# Altium footprint library BASIC Library.PCBLIB: 464 footprints (part 17 of 30)
Each footprint in its own frame and in the unit in brackets; x right, y up, seen from the top. Pads: shape width x height; smd on the part's side, far side on the other; paste and mask are expansions set on the pad; w line width, h text height; cw(c..) or ccw(c..) is an arc to the next point about the centre after c.
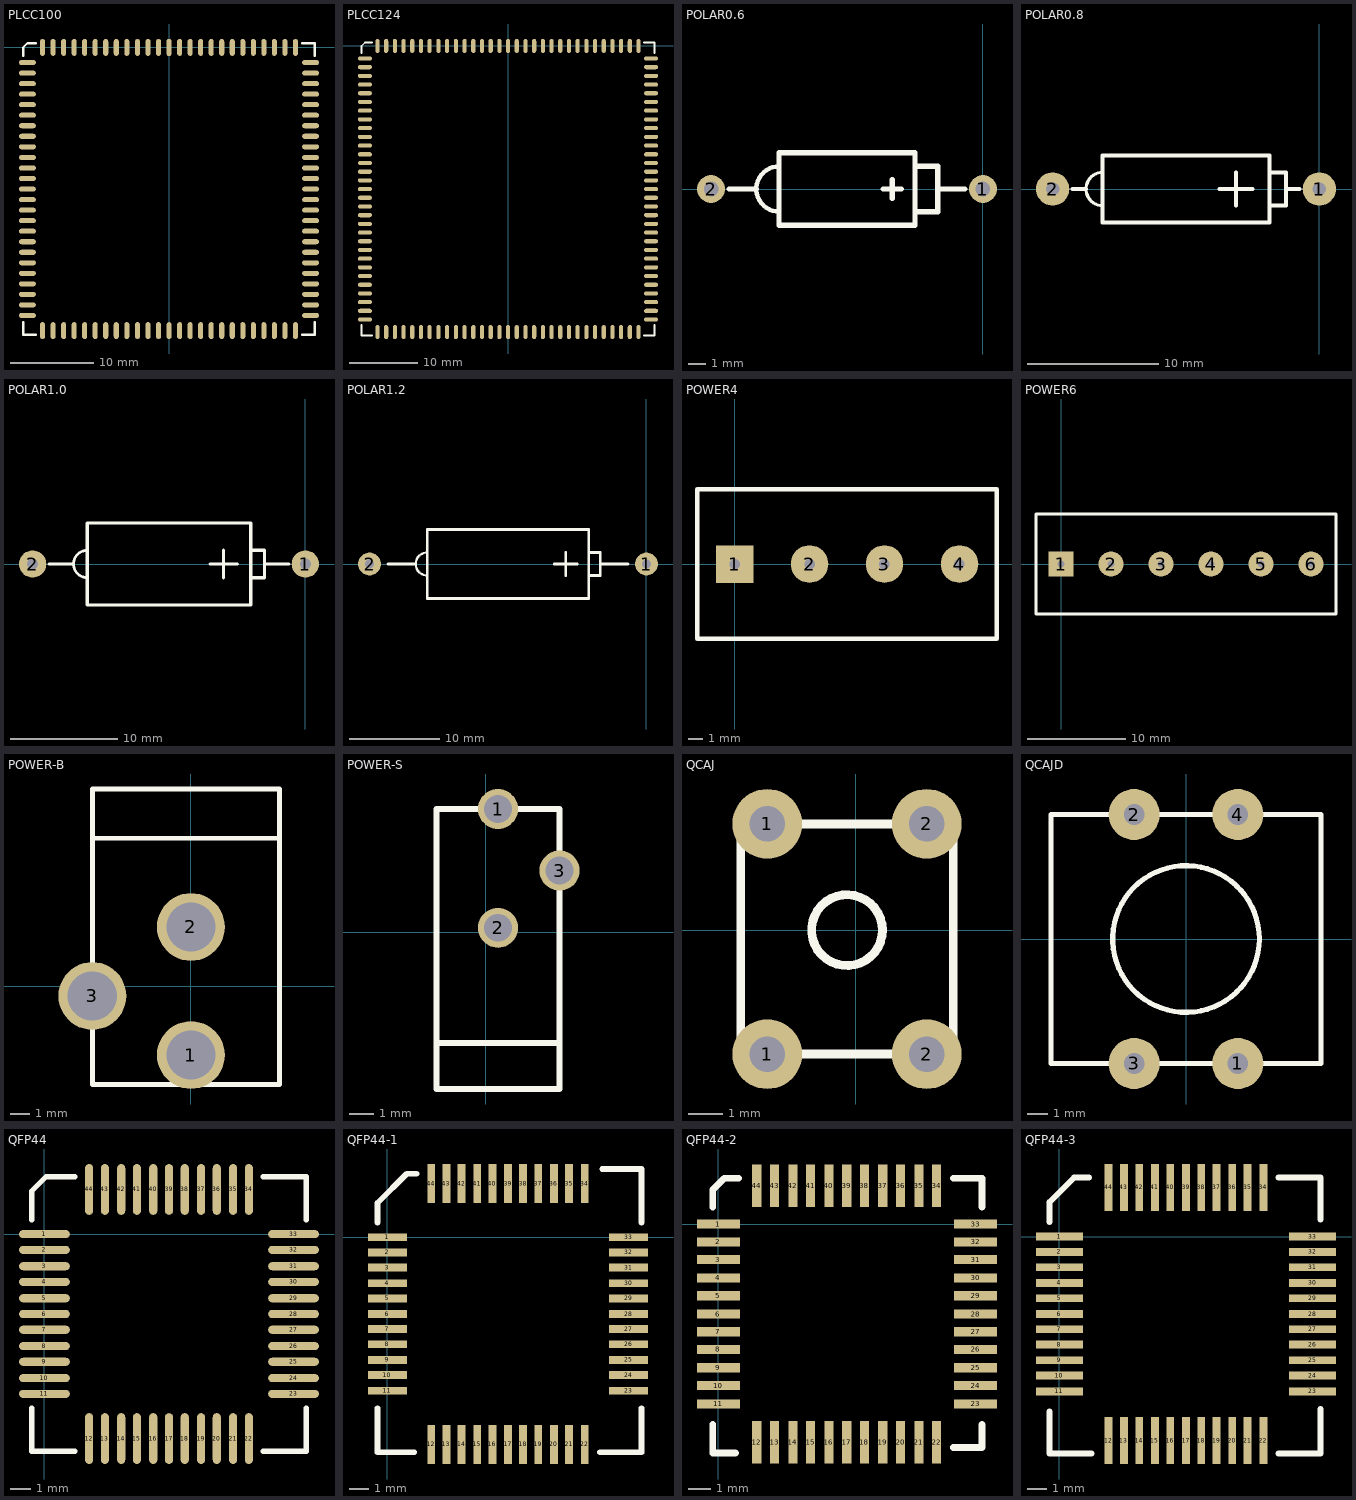
[diagram p16: the footprints below, top view; thin cyan lines are the x and y axes]

## PLCC100 [mil]
pads (100):
  oct 24x80 smd: 1(0,0)
  oval 24x80 smd: 2(-50,0) 3(-100,0) 4(-150,0) 5(-201,0) 6(-251,0) 7(-301,0) 8(-351,0) 9(-401,0) 10(-451,0) 11(-501,0) 12(-551,0) 13(-601,0) 39(-601,-1345) 40(-551,-1345) 41(-501,-1345) 42(-451,-1345) 43(-401,-1345) 44(-351,-1345) 45(-301,-1345) 46(-251,-1345) 47(-201,-1345) 48(-150,-1345) 49(-100,-1345) 50(-50,-1345) 51(0,-1345) 52(50,-1345) 53(100,-1345) 54(150,-1345) 55(200,-1345) 56(250,-1345) 57(300,-1345) 58(350,-1345) 59(400,-1345) 60(450,-1345) 61(500,-1345) 62(550,-1345) 63(600,-1345) 89(600,0) 90(550,0) 91(500,0) 92(450,0) 93(400,0) 94(350,0) 95(300,0) 96(250,0) 97(200,0) 98(150,0) 99(100,0) 100(50,0)
  oval 80x24 smd: 14(-673,-72) 15(-673,-122) 16(-673,-172) 17(-673,-222) 18(-673,-272) 19(-673,-322) 20(-673,-372) 21(-673,-422) 22(-673,-472) 23(-673,-523) 24(-673,-573) 25(-673,-623) 26(-673,-673) 27(-673,-723) 28(-673,-773) 29(-673,-823) 30(-673,-873) 31(-673,-923) 32(-673,-973) 33(-673,-1023) 34(-673,-1073) 35(-673,-1123) 36(-673,-1173) 37(-673,-1223) 38(-673,-1273) 64(672,-1273) 65(672,-1223) 66(672,-1173) 67(672,-1123) 68(672,-1073) 69(672,-1023) 70(672,-973) 71(672,-923) 72(672,-873) 73(672,-823) 74(672,-773) 75(672,-723) 76(672,-673) 77(672,-623) 78(672,-573) 79(672,-523) 80(672,-472) 81(672,-422) 82(672,-372) 83(672,-322) 84(672,-272) 85(672,-222) 86(672,-172) 87(672,-122) 88(672,-72)
TopOverlay:
  lines w10: -693,-1305 -693,-1365 -633,-1365 ; -693,-40 -693,0 -673,20 -633,20 ; 632,-1365 692,-1365 692,-1305 ; 632,20 692,20 692,-40

## PLCC124 [mil]
pads (124):
  oct 24x80 smd: 1(0,0)
  oval 24x80 smd: 2(-50,0) 3(-100,0) 4(-150,0) 5(-200,0) 6(-250,0) 7(-300,0) 8(-351,0) 9(-401,0) 10(-451,0) 11(-501,0) 12(-551,0) 13(-601,0) 14(-651,0) 15(-701,0) 16(-751,0) 48(-751,-1645) 49(-701,-1645) 50(-651,-1645) 51(-601,-1645) 52(-551,-1645) 53(-501,-1645) 54(-451,-1645) 55(-401,-1645) 56(-351,-1645) 57(-300,-1645) 58(-250,-1645) 59(-200,-1645) 60(-150,-1645) 61(-100,-1645) 62(-50,-1645) 63(0,-1645) 64(50,-1645) 65(100,-1645) 66(150,-1645) 67(200,-1645) 68(250,-1645) 69(300,-1645) 70(350,-1645) 71(400,-1645) 72(450,-1645) 73(500,-1645) 74(550,-1645) 75(600,-1645) 76(650,-1645) 77(700,-1645) 78(750,-1645) 110(750,0) 111(700,0) 112(650,0) 113(600,0) 114(550,0) 115(500,0) 116(450,0) 117(400,0) 118(350,0) 119(300,0) 120(250,0) 121(200,0) 122(150,0) 123(100,0) 124(50,0)
  oval 80x24 smd: 17(-823,-72) 18(-823,-122) 19(-823,-172) 20(-823,-222) 21(-823,-272) 22(-823,-322) 23(-823,-372) 24(-823,-422) 25(-823,-472) 26(-823,-523) 27(-823,-573) 28(-823,-623) 29(-823,-673) 30(-823,-723) 31(-823,-773) 32(-823,-823) 33(-823,-873) 34(-823,-923) 35(-823,-973) 36(-823,-1023) 37(-823,-1073) 38(-823,-1123) 39(-823,-1173) 40(-823,-1223) 41(-823,-1273) 42(-823,-1323) 43(-823,-1373) 44(-823,-1423) 45(-823,-1473) 46(-823,-1523) 47(-823,-1573) 79(822,-1573) 80(822,-1523) 81(822,-1473) 82(822,-1423) 83(822,-1373) 84(822,-1323) 85(822,-1273) 86(822,-1223) 87(822,-1173) 88(822,-1123) 89(822,-1073) 90(822,-1023) 91(822,-973) 92(822,-923) 93(822,-873) 94(822,-823) 95(822,-773) 96(822,-723) 97(822,-673) 98(822,-623) 99(822,-573) 100(822,-523) 101(822,-472) 102(822,-422) 103(822,-372) 104(822,-322) 105(822,-272) 106(822,-222) 107(822,-172) 108(822,-122) 109(822,-72)
TopOverlay:
  lines w10: -843,-1605 -843,-1665 -783,-1665 ; -843,-40 -843,0 -823,20 -783,20 ; 782,-1665 842,-1665 842,-1605 ; 782,20 842,20 842,-40

## POLAR0.6 [mil]
pads (2):
  round 62 hole 32: 1(0,0) 2(-600,0)
TopOverlay:
  lines w10: -450,-50 cw(c-450,0) -450,50
  lines w12: -560,0 -500,0 ; -220,0 -180,0 ; -200,-20 -200,20 ; -150,-50 -100,-50 -100,50 -150,50 ; -100,0 -40,0 ; -450,-80 -150,-80 -150,80 -450,80 -450,-80

## POLAR0.8 [mil]
pads (2):
  round 100 hole 40: 1(0,0) 2(-800,0)
TopOverlay:
  lines w10: -650,-50 cw(c-650,0) -650,50
  lines w12: -740,0 -700,0 ; -300,0 -200,0 ; -250,-50 -250,50 ; -150,-50 -100,-50 -100,50 -150,50 ; -100,0 -60,0 ; -650,-100 -150,-100 -150,100 -650,100 -650,-100

## POLAR1.0 [mil]
pads (2):
  round 100 hole 40: 1(0,0) 2(-1000,0)
TopOverlay:
  lines w10: -800,-50 cw(c-800,0) -800,50
  lines w12: -940,0 -850,0 ; -350,0 -250,0 ; -300,-50 -300,50 ; -200,-50 -150,-50 -150,50 -200,50 ; -150,0 -60,0 ; -800,-150 -800,150 -200,150 -200,-150 -800,-150

## POLAR1.2 [mil]
pads (2):
  round 100 hole 40: 1(0,0) 2(-1200,0)
TopOverlay:
  lines w10: -950,-50 cw(c-950,0) -950,50
  lines w12: -1120,0 -1000,0 ; -400,0 -300,0 ; -350,-50 -350,50 ; -250,-50 -200,-50 -200,50 -250,50 ; -200,0 -80,0 ; -950,-150 -250,-150 -250,150 -950,150 -950,-150

## POWER4 [mil]
pads (4):
  rect 100x100 hole 28: 1(0,0)
  round 100 hole 28: 2(200,0) 3(400,0) 4(600,0)
TopOverlay:
  lines w12: -100,-200 700,-200 700,200 -100,200 -100,-200

## POWER6 [mil]
pads (6):
  rect 100x100 hole 28: 1(0,0)
  round 100 hole 28: 2(200,0) 3(400,0) 4(600,0) 5(800,0) 6(1000,0)
TopOverlay:
  lines w12: -100,-200 -100,200 1100,200 1100,-200 -100,-200

## POWER-B [mm]
pads (3):
  round 3.5 hole 2.54: 1(0,-3.556) 2(0,3.048) 3(-5.08,-0.508)
TopOverlay:
  lines w0.254: -5.08,7.62 4.572,7.62 ; -5.08,-5.08 4.572,-5.08 4.572,10.16 -5.08,10.16 -5.08,-5.08

## POWER-S [mil]
pads (3):
  round 65 hole 45: 1(20,200) 2(20,7) 3(120,100)
TopOverlay:
  lines w10: -80,-180 120,-180 ; -80,-255 -80,200 120,200 120,-255 -80,-255

## QCAJ [mil]
pads (4):
  round 78.74 hole 40: 1(-100,-140) 1(-100,120) 2(80,-140) 2(80,120)
TopOverlay:
  circle w10: c-10,0 r40
  lines w10: -130,-140 -130,120 110,120 110,-140 -130,-140

## QCAJD [mil]
pads (4):
  round 98.42 hole 40: 1(100,-240) 2(-100,240) 3(-100,-240) 4(100,240)
TopOverlay:
  circle w10: c0,0 r141.42
  lines w10: -260,-240 -260,240 260,240 260,-240 -260,-240

## QFP44 [mil]
pads (44):
  oval 100x16 smd: 1(0,0) 2(0,-31) 3(0,-63) 4(0,-94) 5(0,-126) 6(0,-157) 7(0,-188) 8(0,-220) 9(0,-251) 10(0,-283) 11(0,-314) 23(490,-314) 24(490,-283) 25(490,-251) 26(490,-220) 27(490,-188) 28(490,-157) 29(490,-126) 30(490,-94) 31(490,-63) 32(490,-31) 33(490,0)
  oval 16x100 smd: 12(88,-402) 13(119,-402) 14(151,-402) 15(182,-402) 16(214,-402) 17(245,-402) 18(276,-402) 19(308,-402) 20(339,-402) 21(371,-402) 22(402,-402) 34(402,88) 35(371,88) 36(339,88) 37(308,88) 38(276,88) 39(245,88) 40(214,88) 41(182,88) 42(151,88) 43(119,88) 44(88,88)
TopOverlay:
  lines w10: -25,-342 -25,-427 60,-427 ; -25,28 -25,85 3,113 60,113 ; 430,-427 515,-427 515,-342 ; 430,113 515,113 515,28

## QFP44-1 [mil]
pads (44):
  rect 80x16 smd: 1(0,0) 2(0,-31) 3(0,-62) 4(0,-94) 5(0,-125) 6(0,-157) 7(0,-188) 8(0,-219) 9(0,-251) 10(0,-282) 11(0,-314) 23(494,-314) 24(494,-282) 25(494,-251) 26(494,-219) 27(494,-188) 28(494,-157) 29(494,-125) 30(494,-94) 31(494,-62) 32(494,-31) 33(494,0)
  rect 16x80 smd: 12(90,-424) 13(121,-424) 14(152,-424) 15(184,-424) 16(215,-424) 17(247,-424) 18(278,-424) 19(309,-424) 20(341,-424) 21(372,-424) 22(404,-424) 34(404,110) 35(372,110) 36(341,110) 37(309,110) 38(278,110) 39(247,110) 40(215,110) 41(184,110) 42(152,110) 43(121,110) 44(90,110)
TopOverlay:
  lines w12: -20,-350 -20,-440 55,-440 ; -20,30 -20,70 40,130 60,130 ; 435,-440 520,-440 520,-350 ; 440,140 520,140 520,30

## QFP44-2 [mil]
pads (44):
  rect 75x16 smd: 1(0,0) 2(0,-31) 3(0,-62) 4(0,-94) 5(0,-125) 6(0,-157) 7(0,-188) 8(0,-219) 9(0,-251) 10(0,-282) 11(0,-314) 23(449,-314) 24(449,-282) 25(449,-251) 26(449,-219) 27(449,-188) 28(449,-157) 29(449,-125) 30(449,-94) 31(449,-62) 32(449,-31) 33(449,0)
  rect 16x75 smd: 12(67,-381) 13(98,-381) 14(130,-381) 15(161,-381) 16(193,-381) 17(224,-381) 18(255,-381) 19(287,-381) 20(318,-381) 21(350,-381) 22(381,-381) 34(381,67) 35(350,67) 36(318,67) 37(287,67) 38(255,67) 39(224,67) 40(193,67) 41(161,67) 42(130,67) 43(98,67) 44(67,67)
TopOverlay:
  lines w12: -10,-350 -10,-400 30,-400 ; -10,30 -10,60 10,80 35,80 ; 410,-390 460,-390 460,-350 ; 410,80 460,80 460,30

## QFP44-3 [mil]
pads (44):
  rect 95x16 smd: 1(0,0) 2(0,-31) 3(0,-62) 4(0,-94) 5(0,-125) 6(0,-157) 7(0,-188) 8(0,-219) 9(0,-251) 10(0,-282) 11(0,-314) 23(514,-314) 24(514,-282) 25(514,-251) 26(514,-219) 27(514,-188) 28(514,-157) 29(514,-125) 30(514,-94) 31(514,-62) 32(514,-31) 33(514,0)
  rect 16x95 smd: 12(100,-414) 13(131,-414) 14(162,-414) 15(194,-414) 16(225,-414) 17(257,-414) 18(288,-414) 19(319,-414) 20(351,-414) 21(382,-414) 22(414,-414) 34(414,100) 35(382,100) 36(351,100) 37(319,100) 38(288,100) 39(257,100) 40(225,100) 41(194,100) 42(162,100) 43(131,100) 44(100,100)
TopOverlay:
  lines w12: -20,-355 -20,-440 65,-440 ; -20,30 -20,70 30,120 60,120 ; 445,-440 530,-440 530,-350 ; 445,120 530,120 530,35